# EAGLE library part MAX30205 (library (custom)-new-components)
The MAX30205 temperature sensor accurately measures temperature and provide an overtemperature alarm/ interrupt/shutdown output.
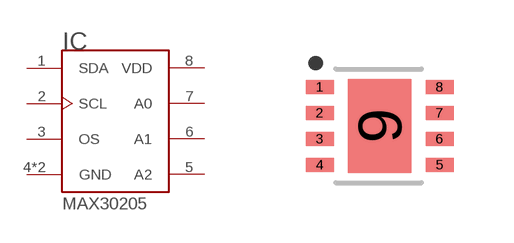
[diagram p10: symbol with the pads of TDFN8; footprint TDFN8]

Designator prefix IC

## MAX30205_  [TDFN8]
1  SDA
2  SCL
3  OS
4  GND
5  A2
6  A1
7  A0
8  VDD
9  GND

## Footprint TDFN8 (pad centres in mm)
smd 0.7 x 0.35: 1 -1.5,1; 2 -1.5,0.35; 3 -1.5,-0.3; 4 -1.5,-0.95; 5 1.5,-0.95; 6 1.5,-0.3; 7 1.5,0.35; 8 1.5,1
smd 1.58 x 2.35: 9 0,0.03